# Altium schematic symbol library cp2104.SchLib: 1 symbol
Pins are listed as number, name and electrical type; pins without a type are passive.

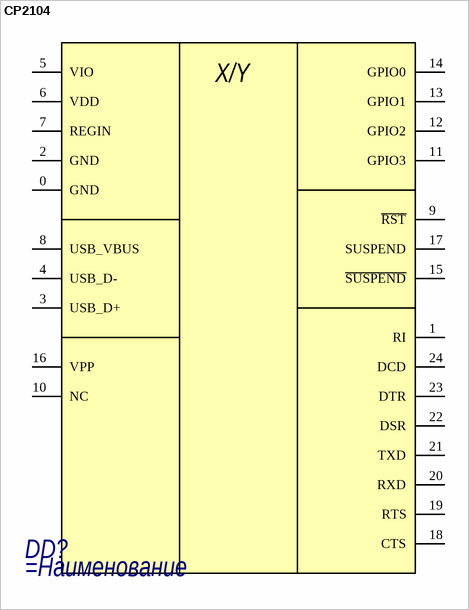
[diagram p0: symbol CP2104]

## CP2104
designator DD?
=Описание
pins: 0 GND, 1 RI, 2 GND, 3 USB_D+, 4 USB_D-, 5 VIO, 6 VDD, 7 REGIN, 8 USB_VBUS, 9 ~{RST}, 10 NC, 11 GPIO3, 12 GPIO2, 13 GPIO1, 14 GPIO0, 15 ~{SUSPEND}, 16 VPP, 17 SUSPEND, 18 CTS, 19 RTS, 20 RXD, 21 TXD, 22 DSR, 23 DTR, 24 DCD
text: X/Y